# Altium schematic symbol library MyLibs_Cap_Touch.SchLib: 7 symbols
Pins are listed as number, name and electrical type; pins without a type are passive.

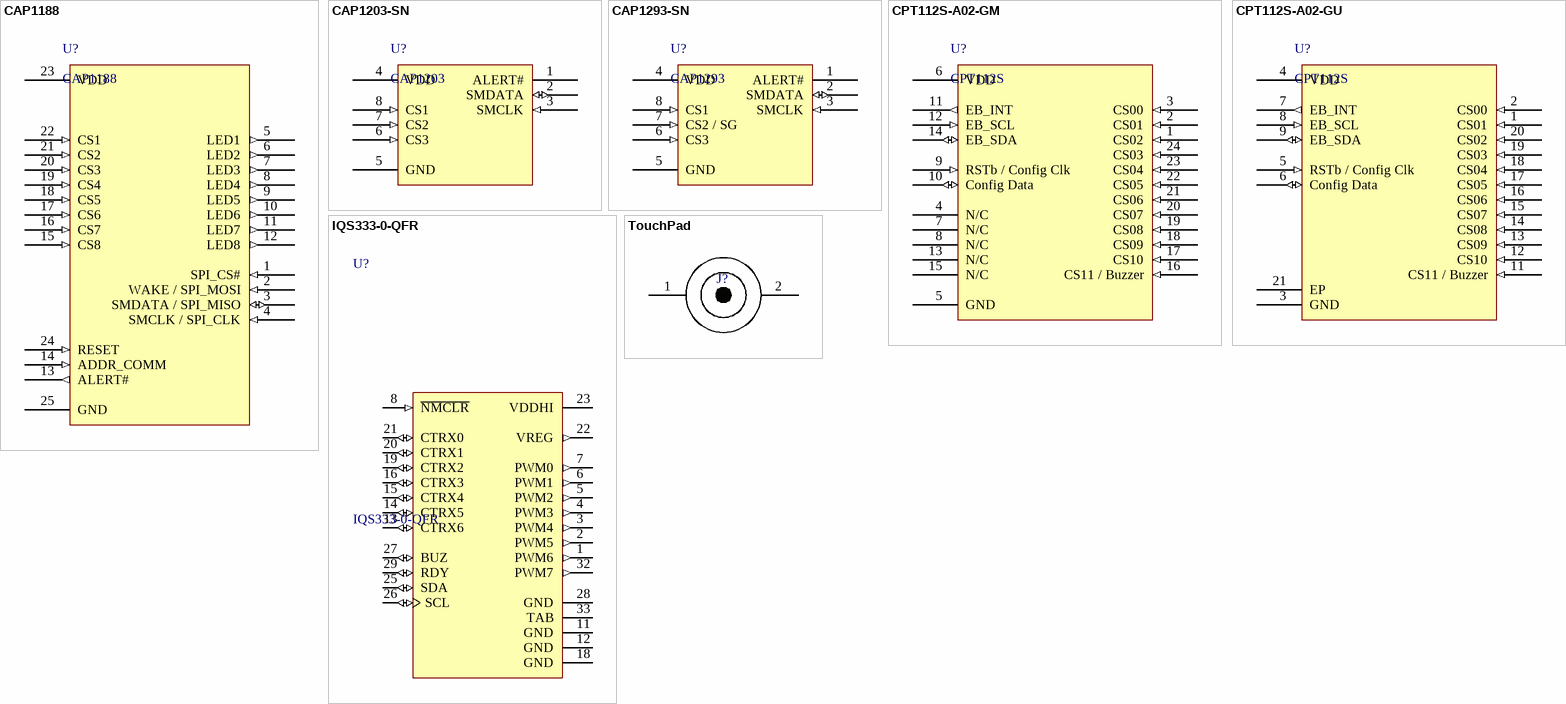
[diagram p0: symbols CAP1188 to TouchPad]

## CAP1188
designator U?
8 Channel Capacitive Touch Sensor with 8 LED Drivers
pins: 1 SPI_CS# (in), 2 WAKE / SPI_MOSI (in), 3 SMDATA / SPI_MISO (io), 4 SMCLK / SPI_CLK (in), 5 LED1 (out), 6 LED2 (out), 7 LED3 (out), 8 LED4 (out), 9 LED5 (out), 10 LED6 (out), 11 LED7 (out), 12 LED8 (out), 13 ALERT# (out), 14 ADDR_COMM (in), 15 CS8 (in), 16 CS7 (in), 17 CS6 (in), 18 CS5 (in), 19 CS4 (in), 20 CS3 (in), 21 CS2 (in), 22 CS1 (in), 23 VDD (power), 24 RESET (in), 25 GND (power)

## CAP1203-SN
designator U?, comment CAP1203
3-Channel Capacitive Touch Sensor - SOIC-8
pins: 1 ALERT# (oc), 2 SMDATA (io), 3 SMCLK (in), 4 VDD (power), 5 GND (power), 6 CS3 (in), 7 CS2 (in), 8 CS1 (in)

## CAP1293-SN
designator U?, comment CAP1293
3-Channel Capacitive Touch Sensor with Proximity / Detection & Signal Guard - SOIC-8
pins: 1 ALERT# (oc), 2 SMDATA (io), 3 SMCLK (in), 4 VDD (power), 5 GND (power), 6 CS3 (in), 7 CS2 / SG (in), 8 CS1 (in)

## CPT112S-A02-GM
designator U?, comment CPT112S
Capacitive Touch Buttons and Slider - QSOP24
pins: 1 CS02 (in) "Capacitive sensing input 2", 2 CS01 (in) "Capacitive sensing input 1", 3 CS00 (in) "Capacitive sensing input 0", 4 N/C "No Connect (leave this pin floating)", 5 GND (power) "Ground", 6 VDD (power) "Supply power input", 7 N/C "No Connect (leave this pin floating)", 8 N/C "No Connect (leave this pin floating)", 9 RSTb / Config Clk (in) "Active-low reset /  Configuration clock", 10 Config Data (io) "Configuration data", 11 EB_INT (out) "Event buffer interrupt pin", 12 EB_SCL (in) "Event buffer I2C SCL", 13 N/C "No Connect (leave this pin floating)", 14 EB_SDA (io) "Event buffer I2C SDA", 15 N/C "No Connect (leave this pin floating)", 16 CS11 / Buzzer (in) "Capacitive sensing input 11 / Buzzer", 17 CS10 (in) "Capacitive sensing input 10", 18 CS09 (in) "Capacitive sensing input 9", 19 CS08 (in) "Capacitive sensing input 8", 20 CS07 (in) "Capacitive sensing input 7", 21 CS06 (in) "Capacitive sensing input 6", 22 CS05 (in) "Capacitive sensing input 5", 23 CS04 (in) "Capacitive sensing input 4", 24 CS03 (in) "Capacitive sensing input 3"

## CPT112S-A02-GU
designator U?, comment CPT112S
Capacitive Touch Buttons and Slider - QFN20
pins: 1 CS01 (in) "Capacitive sensing input 1", 2 CS00 (in) "Capacitive sensing input 0", 3 GND (power) "Ground", 4 VDD (power) "Supply power input", 5 RSTb / Config Clk (in) "Active-low reset /  Configuration clock", 6 Config Data (io) "Configuration data", 7 EB_INT (out) "Event buffer interrupt pin", 8 EB_SCL (in) "Event buffer I2C SCL", 9 EB_SDA (io) "Event buffer I2C SDA", 11 CS11 / Buzzer (in) "Capacitive sensing input 11 / Buzzer", 12 CS10 (in) "Capacitive sensing input 10", 13 CS09 (in) "Capacitive sensing input 9", 14 CS08 (in) "Capacitive sensing input 8", 15 CS07 (in) "Capacitive sensing input 7", 16 CS06 (in) "Capacitive sensing input 6", 17 CS05 (in) "Capacitive sensing input 5", 18 CS04 (in) "Capacitive sensing input 4", 19 CS03 (in) "Capacitive sensing input 3", 20 CS02 (in) "Capacitive sensing input 2", 21 EP (power) "Ground"

## IQS333-0-QFR
designator U?
9 Channel Projected / 7 Channel Self- Capacitive Touch and Proximity Controller with 2 x 11-bit slider/scroll wheels
pins: 1 PWM6 (out), 2 PWM5 (out), 3 PWM4 (out), 4 PWM3 (out), 5 PWM2 (out), 6 PWM1 (out), 7 PWM0 (out), 8 ~{NMCLR} (in), 11 GND (power), 12 GND (power), 13 CTRX6 (io), 14 CTRX5 (io), 15 CTRX4 (io), 16 CTRX3 (io), 18 GND (power), 19 CTRX2 (io), 20 CTRX1 (io), 21 CTRX0 (io), 22 VREG (out), 23 VDDHI (power), 25 SDA (io), 26 SCL (io), 27 BUZ (io), 28 GND (power), 29 RDY (io), 32 PWM7 (out), 33 TAB (power)

## TouchPad
designator J?
Touch Sensitive Sensor
pins: 1 ANODE, 2 CATHODE